# Altium footprint library Antenna.PcbLib: 19 footprints (part 1 of 2)
Each footprint in its own frame and in the unit in brackets; x right, y up, seen from the top. Pads: shape width x height; smd on the part's side, far side on the other; paste and mask are expansions set on the pad; w line width, h text height; cw(c..) or ccw(c..) is an arc to the next point about the centre after c.
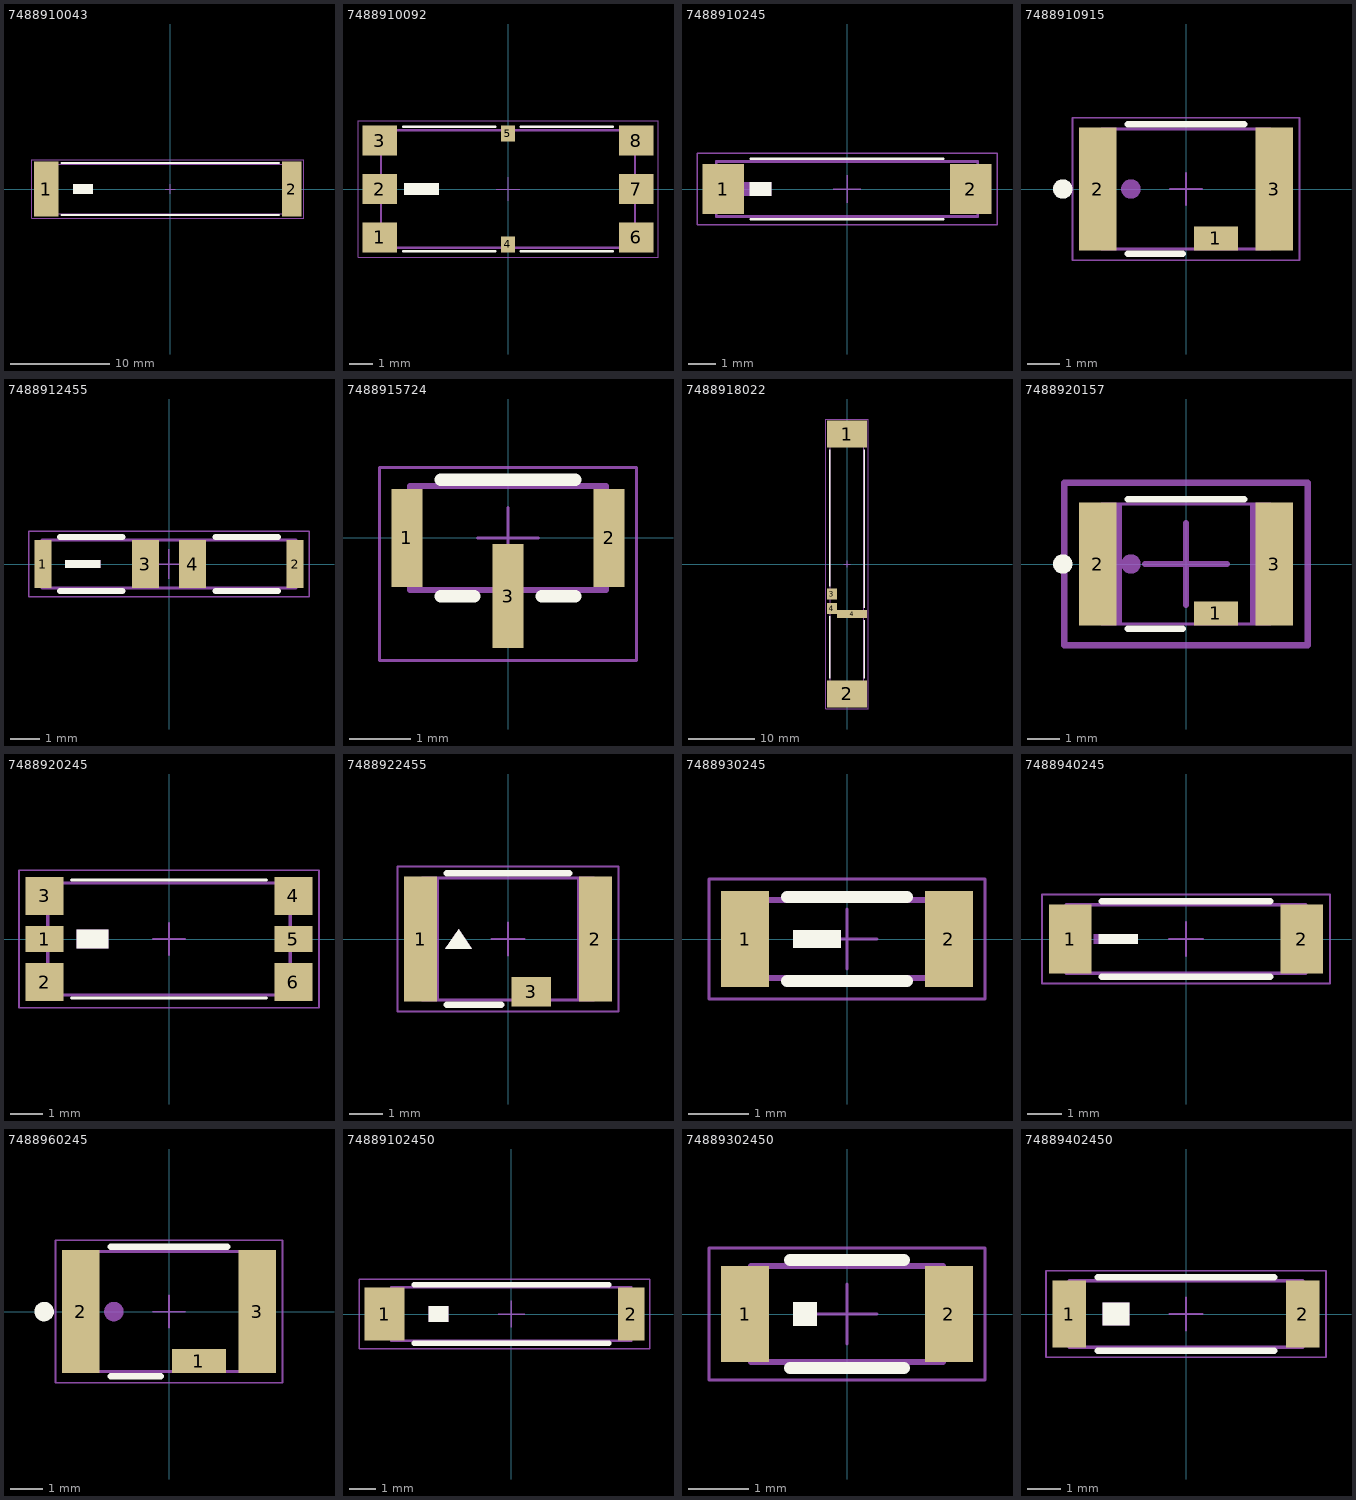
[diagram p0: the footprints below, top view; thin cyan lines are the x and y axes]

## 7488910043 [mm] "SMT Multilayer Chip Antenna, body 25x5mm"
height 1.2
pads (2):
  rect 2.5x5.5 smd: 1(-12.5,0)
  rect 2x5.5 smd: 2(12.25,0)
Top Overlay:
  rectangle: -9.8,-0.5 -7.8,0.5
  lines w0.2: -10.95,-2.6 10.95,-2.6 ; -10.95,2.6 10.95,2.6
Top Designator:
  text ".Designator" at -7.498,-0.5 h1.5
Top Component Outline:
  rectangle: -9.8,-0.5 -7.8,0.5
  lines w0.1: -12.5,-2.5 12.5,-2.5 12.5,2.5 -12.5,2.5 -12.5,-2.5
Mechanical 13:
  rectangle: -9.8,-0.5 -7.8,0.5
  lines w0.1: -12.5,-2.5 -12.5,2.5 12.5,2.5 12.5,-2.5 -12.5,-2.5
Mechanical 15:
  lines w0.05: -0.5,0 0.5,0 ; 0,-0.5 0,0.5 ; -13.95,-2.95 13.45,-2.95 13.45,2.95 -13.95,2.95 -13.95,-2.95
3D body "7488910043.stp": height 1.2, standoff 0, extent -12.5,-2.5 12.5,2.5

## 7488910092 [mm] "SMT Multilayer Chip Antenna, body 11x5.1mm"
height 1.5
pads (8):
  rect 1.5x1.3 smd: 1(-5.55,-2.1) 2(-5.55,0) 3(-5.55,2.1) 6(5.55,-2.1) 7(5.55,0) 8(5.55,2.1)
  rect 0.6x0.7 smd: 4(0,-2.4) 5(0,2.4)
Top Overlay:
  region: -3,0.25 -4.5,0.25 -4.5,-0.25 -3,-0.25
  lines w0.1: -4.55,-2.7 -0.55,-2.7 ; -4.55,2.7 -0.55,2.7 ; 0.55,-2.7 4.55,-2.7 ; 0.55,2.7 4.55,2.7
Top Designator:
  text ".Designator" at -7.498,-0.5 h1.5
Top Component Outline:
  region: -3,0.25 -4.5,0.25 -4.5,-0.25 -3,-0.25
  lines w0.1: -5.5,-2.55 -5.5,2.55 5.5,2.55 5.5,-2.55 -5.5,-2.55
Mechanical 13:
  region: -3,0.25 -4.5,0.25 -4.5,-0.25 -3,-0.25
  lines w0.1: -5.5,-2.55 5.5,-2.55 5.5,2.55 -5.5,2.55 -5.5,-2.55
Mechanical 15:
  lines w0.05: -0.5,0 0.5,0 ; 0,-0.5 0,0.5 ; -6.5,-2.95 6.5,-2.95 6.5,2.95 -6.5,2.95 -6.5,-2.95
3D body "7488910092.stp": height 1.5, standoff 0, extent -5.5,-2.55 5.5,2.55

## 7488910245 [mm] "SMT Multilayer Chip Antenna, body 9.5x2mm"
height 1.2
pads (2):
  rect 1.5x1.8 smd: 1(-4.5,0) 2(4.5,0)
Top Overlay:
  rectangle: -3.55,-0.25 -2.75,0.25
  lines w0.1: -3.5,-1.1 3.5,-1.1 ; -3.5,1.1 3.5,1.1
Top Designator:
  text ".Designator" at -7.498,-0.5 h1.5
Top Component Outline:
  rectangle: -4.25,-0.25 -2.75,0.25
  lines w0.1: -4.75,-1 -4.75,1 4.75,1 4.75,-1 -4.75,-1
Mechanical 13:
  rectangle: -4.25,-0.25 -2.75,0.25
  lines w0.1: -4.75,-1 4.75,-1 4.75,1 -4.75,1 -4.75,-1
Mechanical 15:
  lines w0.05: -0.5,0 0.5,0 ; 0,-0.5 0,0.5 ; -5.45,-1.3 -5.45,1.3 5.45,1.3 5.45,-1.3 -5.45,-1.3
3D body "7488910245.stp": height 1.2, standoff 0, extent -4.75,-1 4.75,1

## 7488910915 [mm] "SMT-Multilayer Chip Antenne, body size 5.2x3.7mm"
height 0.7
pads (3):
  rect 1.35x0.75 smd: 1(0.925,-1.525)
  rect 1.15x3.8 smd: 2(-2.725,0) 3(2.725,0)
Top Overlay:
  circle w0.3: c-3.8,0 r0.15
  lines w0.2: -1.8,-2 -0.1,-2 ; -1.8,2 1.8,2
Top Designator:
  text ".Designator" at -7.498,-0.5 h1.5
Top Component Outline:
  circle w0.3: c-1.7,0 r0.15
  lines w0.1: -2.6,-1.85 2.6,-1.85 2.6,1.85 -2.6,1.85 -2.6,-1.85
Mechanical 13:
  circle w0.3: c-1.7,0 r0.15
  lines w0.1: -2.6,-1.85 -2.6,1.85 2.6,1.85 2.6,-1.85 -2.6,-1.85
Mechanical 15:
  lines w0.05: -0.5,0 0.5,0 ; 0,-0.5 0,0.5 ; -3.5,-2.2 3.5,-2.2 3.5,2.2 -3.5,2.2 -3.5,-2.2
3D body "7488910915.stp": height 0.7, standoff 0, extent -2.6,-1.85 2.6,1.85

## 7488912455 [mm] "SMT Multilayer Chip Antenna, body 8.5x1.6mm"
height 1.2
pads (4):
  rect 0.56x1.6 smd: 1(-4.22,0) 2(4.22,0)
  rect 0.9x1.6 smd: 3(-0.79,0) 4(0.79,0)
Top Overlay:
  rectangle: -3.485,-0.13 -2.285,0.13
  lines w0.2: -3.65,-0.9 -1.55,-0.9 ; -3.65,0.9 -1.55,0.9 ; 1.55,-0.9 3.65,-0.9 ; 1.55,0.9 3.65,0.9
Top Designator:
  text ".Designator" at -4.998,-0.333 h1
Top Component Outline:
  rectangle: -3.485,-0.13 -2.285,0.13
  lines w0.1: -4.25,-0.8 4.25,-0.8 4.25,0.8 -4.25,0.8 -4.25,-0.8
Mechanical 13:
  rectangle: -3.485,-0.13 -2.285,0.13
  lines w0.1: -4.25,-0.8 -4.25,0.8 4.25,0.8 4.25,-0.8 -4.25,-0.8
Mechanical 15:
  lines w0.05: -0.5,0 0.5,0 ; 0,-0.5 0,0.5 ; -4.7,-1.1 4.7,-1.1 4.7,1.1 -4.7,1.1 -4.7,-1.1
3D body "7488912455.stp": height 1.2, standoff 0, extent -4.25,-0.8 4.25,0.8

## 7488915724 [mm] "SMT-Multilayer Chip Antenne, body size 3.2x1.7mm"
height 0.5
pads (3):
  rect 0.5x1.6 smd: 1(-1.65,0) 2(1.65,0)
  rect 0.5x1.7 smd: 3(0,-0.95)
Top Overlay:
  lines w0.2: -1.1,-0.95 -0.55,-0.95 ; -1.1,0.95 1.1,0.95 ; 0.55,-0.95 1.1,-0.95
Top Designator:
  text ".Designator" at -4.998,-0.333 h1
Top Component Outline:
  lines w0.1: -1.6,-0.85 1.6,-0.85 1.6,0.85 -1.6,0.85 -1.6,-0.85
Mechanical 13:
  lines w0.1: -1.6,-0.85 -1.6,0.85 1.6,0.85 1.6,-0.85 -1.6,-0.85
Mechanical 15:
  lines w0.05: -0.5,0 0.5,0 ; 0,-0.5 0,0.5 ; -2.1,-2 2.1,-2 2.1,1.15 -2.1,1.15 -2.1,-2
3D body "7488915724.stp": height 0.5, standoff 0, extent -1.6,-0.85 1.6,0.85

## 7488918022 [mm] "SMT-Multilayer Chip Antenne, body 40x5mm"
height 6.2
pads (5):
  rect 6x4 smd: 1(0,19.5) 2(0,-19.5)
  rect 1.5x1.65 smd: 3(-2.25,-4.525) 4(-2.25,-6.675)
  rect 4.5x1.2 smd: 4(0.75,-7.5)
Top Overlay:
  lines w0.2: -2.6,-17.15 -2.6,-7.85 ; -2.6,-3.35 -2.6,17.15 ; 2.6,-17.15 2.6,-8.45 ; 2.6,-6.55 2.6,17.15
Top Designator:
  text ".Designator" at 0.5,-7.498 h1.5
Top Component Outline:
  lines w0.1: -2.5,-20 2.5,-20 2.5,20 -2.5,20 -2.5,-20
Mechanical 13:
  lines w0.1: -2.5,-20 2.5,-20 2.5,20 -2.5,20 -2.5,-20
Mechanical 15:
  lines w0.05: -0.5,0 0.5,0 ; 0,-0.5 0,0.5 ; -3.2,-21.7 3.2,-21.7 3.2,21.7 -3.2,21.7 -3.2,-21.7
3D body "7488918022.stp": height 6, standoff 0, extent -2.5,-20 2.5,20

## 7488920157 [mm] "SMT-Multilayer Chip Antenne, body size 5.2x3.7mm"
height 0.7
pads (3):
  rect 1.35x0.75 smd: 1(0.925,-1.525)
  rect 1.15x3.8 smd: 2(-2.725,0) 3(2.725,0)
Top Overlay:
  circle w0.3: c-3.8,0 r0.15
  lines w0.2: -1.8,-2 -0.1,-2 ; -1.8,2 1.8,2
Mechanical 13:
  circle w0.3: c-1.7,0 r0.15
  region: 2.6,1.871 1.966,1.871 1.966,-1.85 2.6,-1.85
  rectangle: -2.6,-1.871 -1.966,1.85
  lines w0.1: -2.6,-1.85 2.6,-1.85 2.6,1.85 -2.6,1.85 -2.6,-1.85
  text ".Designator" at -4.998,-0.333 h1
Mechanical 15:
  lines w0.2: -1.25,0 1.25,0 ; 0,-1.25 0,1.25 ; -3.75,-2.5 3.75,-2.5 3.75,2.5 -3.75,2.5 -3.75,-2.5
3D body "7488920157.stp": height 0.7, standoff 0, extent -2.6,-1.85 2.6,1.85

## 7488920245 [mm] "SMT Multilayer Chip Antenna, body 7.6x3.5mm"
height 1.25
pads (6):
  rect 1.2x0.8 smd: 1(-3.9,0) 5(3.9,0)
  rect 1.2x1.2 smd: 2(-3.9,-1.35) 3(-3.9,1.35) 4(3.9,1.35) 6(3.9,-1.35)
Top Overlay:
  rectangle: -2.9,-0.3 -1.9,0.3
  lines w0.1: -3.05,-1.85 3.05,-1.85 ; -3.05,1.85 3.05,1.85
Top Designator:
  text ".Designator" at -7.498,-0.5 h1.5
Top Component Outline:
  rectangle: -2.9,-0.3 -1.9,0.3
  lines w0.1: -3.8,-1.75 -3.8,1.75 3.8,1.75 3.8,-1.75 -3.8,-1.75
Mechanical 13:
  rectangle: -2.9,-0.3 -1.9,0.3
  lines w0.1: -3.8,-1.75 3.8,-1.75 3.8,1.75 -3.8,1.75 -3.8,-1.75
Mechanical 15:
  lines w0.05: -0.5,0 0.5,0 ; 0,-0.5 0,0.5 ; -4.7,-2.15 -4.7,2.15 4.7,2.15 4.7,-2.15 -4.7,-2.15
3D body "7488920245.stp": height 1.1, standoff 0, extent -3.8,-1.75 3.8,1.75

## 7488922455 [mm] "SMT-Multilayer Chip Antenne, body size 5.2x3.7mm"
height 0.7
pads (3):
  rect 1x3.8 smd: 1(-2.65,0) 2(2.65,0)
  rect 1.2x0.9 smd: 3(0.7,-1.6)
Top Overlay:
  region: -1.5,0.3 -1.9,-0.3 -1.1,-0.3
  lines w0.2: -1.85,-2 -0.2,-2 ; -1.85,2 1.85,2
Mechanical 13:
  region: 2.6,1.846 2.088,1.846 2.088,-1.85 2.6,-1.85
  rectangle: -2.6,-1.846 -2.088,1.85
  region: -1.5,0.3 -1.9,-0.3 -1.1,-0.3
  region: -1.5,0.3 -1.9,-0.3 -1.1,-0.3
  lines w0.1: -2.6,-1.85 -2.6,1.85 2.6,1.85 2.6,-1.85 -2.6,-1.85
  text ".Designator" at -4.998,-0.333 h1
Mechanical 15:
  lines w0.05: -0.5,0 0.5,0 ; 0,-0.5 0,0.5 ; -3.35,-2.2 3.35,-2.2 3.35,2.2 -3.35,2.2 -3.35,-2.2
3D body "7488922455.stp": height 0.7, standoff 0, extent -2.6,-1.85 2.6,1.85

## 7488930245 [mm] "SMT Multilayer Chip Antenna, body 3.2x1.6mm"
height 1.3
pads (2):
  rect 0.8x1.6 smd: 1(-1.7,0) 2(1.7,0)
Top Overlay:
  rectangle: -0.9,-0.15 -0.1,0.15
  lines w0.2: -1,-0.7 1,-0.7 ; -1,0.7 1,0.7
Top Designator:
  text ".Designator" at -4.998,-0.333 h1
Top Component Outline:
  rectangle: -0.9,-0.15 -0.1,0.15
  lines w0.1: -1.6,-0.65 1.6,-0.65 1.6,0.65 -1.6,0.65 -1.6,-0.65
Mechanical 13:
  rectangle: -0.9,-0.15 -0.1,0.15
  lines w0.1: -1.6,-0.65 -1.6,0.65 1.6,0.65 1.6,-0.65 -1.6,-0.65
Mechanical 15:
  lines w0.05: -0.5,0 0.5,0 ; 0,-0.5 0,0.5 ; -2.3,-1 -2.3,1 2.3,1 2.3,-1 -2.3,-1
3D body "7488930245.stp": height 1.3, standoff 0, extent -1.6,-0.8 1.6,0.8

## 7488940245 [mm] "SMT Multilayer Chip Antenna, body 7x2mm"
height 1.2
pads (2):
  rect 1.25x2 smd: 1(-3.375,0) 2(3.375,0)
Top Overlay:
  rectangle: -2.55,-0.15 -1.4,0.15
  lines w0.2: -2.45,-1.1 2.45,-1.1 ; -2.45,1.1 2.45,1.1
Top Designator:
  text ".Designator" at -4.998,-0.333 h1
Top Component Outline:
  rectangle: -2.7,-0.15 -1.4,0.15
  lines w0.1: -3.5,-1 3.5,-1 3.5,1 -3.5,1 -3.5,-1
Mechanical 13:
  rectangle: -2.7,-0.15 -1.4,0.15
  lines w0.1: -3.5,-1 -3.5,1 3.5,1 3.5,-1 -3.5,-1
Mechanical 15:
  lines w0.05: -0.5,0 0.5,0 ; 0,-0.5 0,0.5 ; -4.2,-1.3 4.2,-1.3 4.2,1.3 -4.2,1.3 -4.2,-1.3
3D body "7488940245.stp": height 1.2, standoff 0, extent -3.5,-1 3.5,1

## 7488960245 [mm] "SMT-Multilayer Chip Antenne, body size 5.2x3.7mm"
height 0.7
pads (3):
  rect 1.65x0.75 smd: 1(0.925,-1.525)
  rect 1.15x3.8 smd: 2(-2.725,0) 3(2.725,0)
Top Overlay:
  circle w0.3: c-3.85,0 r0.15
  lines w0.2: -1.8,-2 -0.25,-2 ; -1.8,2 1.8,2
Top Designator:
  text ".Designator" at -7.498,-0.5 h1.5
Top Component Outline:
  circle w0.3: c-1.7,0 r0.15
  lines w0.1: -2.6,-1.85 -2.6,1.85 2.6,1.85 2.6,-1.85 -2.6,-1.85
Mechanical 13:
  circle w0.3: c-1.7,0 r0.15
  lines w0.1: -2.6,-1.85 2.6,-1.85 2.6,1.85 -2.6,1.85 -2.6,-1.85
Mechanical 15:
  lines w0.05: -0.5,0 0.5,0 ; 0,-0.5 0,0.5 ; -3.5,-2.2 -3.5,2.2 3.5,2.2 3.5,-2.2 -3.5,-2.2
3D body "7488960245.stp": height 0.7, standoff 0, extent -2.6,-1.85 2.6,1.85

## 74889102450 [mm] "SMT-Multilayer Chip Antenna, body 2x9mm"
height 1
pads (2):
  rect 1.5x2 smd: 1(-4.75,0)
  rect 1x2 smd: 2(4.5,0)
Top Overlay:
  rectangle: -3.1,-0.3 -2.35,0.3
  lines w0.2: -3.65,-1.1 3.65,-1.1 ; -3.65,1.1 3.65,1.1
Top Designator:
  text ".Designator" at -5.998,-0.4 h1.2
Top Component Outline:
  rectangle: -3.1,-0.3 -2.35,0.3
  lines w0.1: -4.5,-1 -4.5,1 4.5,1 4.5,-1 -4.5,-1
Mechanical 13:
  rectangle: -3.1,-0.3 -2.35,0.3
  lines w0.1: -4.5,-1 4.5,-1 4.5,1 -4.5,1 -4.5,-1
Mechanical 15:
  lines w0.05: -0.5,0 0.5,0 ; 0,-0.5 0,0.5 ; -5.7,-1.3 -5.7,1.3 5.2,1.3 5.2,-1.3 -5.7,-1.3
3D body "74889102450.stp": height 1, standoff 0, extent -4.5,-1 4.5,1

## 74889302450 [mm] "SMT-Multilayer Chip Antenna, body 3.2x1.6mm"
height 1.2
pads (2):
  rect 0.8x1.6 smd: 1(-1.7,0) 2(1.7,0)
Top Overlay:
  rectangle: -0.9,-0.2 -0.5,0.2
  lines w0.2: -0.95,-0.9 0.95,-0.9 ; -0.95,0.9 0.95,0.9
Top Designator:
  text ".Designator" at -4.998,-0.333 h1
Top Component Outline:
  rectangle: -0.9,-0.2 -0.5,0.2
  lines w0.1: -1.6,-0.8 -1.6,0.8 1.6,0.8 1.6,-0.8 -1.6,-0.8
Mechanical 13:
  rectangle: -0.9,-0.2 -0.5,0.2
  lines w0.1: -1.6,-0.8 1.6,-0.8 1.6,0.8 -1.6,0.8 -1.6,-0.8
Mechanical 15:
  lines w0.05: -0.5,0 0.5,0 ; 0,-0.5 0,0.5 ; -2.3,-1.1 -2.3,1.1 2.3,1.1 2.3,-1.1 -2.3,-1.1
3D body "74889302450.stp": height 1.2, standoff 0, extent -1.6,-0.8 1.6,0.8

## 74889402450 [mm] "SMT-Multilayer Chip Antenna, body 7x2mm"
height 1
pads (2):
  rect 1x2 smd: 1(-3.5,0) 2(3.5,0)
Top Overlay:
  rectangle: -2.5,-0.35 -1.7,0.35
  lines w0.2: -2.65,-1.1 2.65,-1.1 ; -2.65,1.1 2.65,1.1
Top Designator:
  text ".Designator" at -5.998,-0.4 h1.2
Top Component Outline:
  rectangle: -2.5,-0.35 -1.7,0.35
  lines w0.1: -3.5,-1 -3.5,1 3.5,1 3.5,-1 -3.5,-1
Mechanical 13:
  rectangle: -2.5,-0.35 -1.7,0.35
  lines w0.1: -3.5,-1 3.5,-1 3.5,1 -3.5,1 -3.5,-1
Mechanical 15:
  lines w0.05: -0.5,0 0.5,0 ; 0,-0.5 0,0.5 ; -4.2,-1.3 -4.2,1.3 4.2,1.3 4.2,-1.3 -4.2,-1.3
3D body "74889402450.stp": height 1, standoff 0, extent -3.5,-1 3.5,1